# EAGLE library part CHROMATION_FLEX-8 (library Chromation)
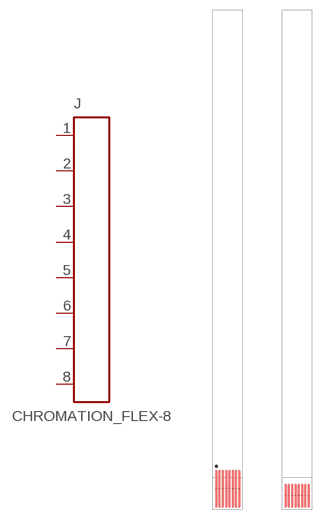
[diagram p18: symbol with the pads of CHROMATION_FLEX-8-OLD; footprints CHROMATION_FLEX-8-OLD, CHROMATION_FLEX-8]

Designator prefix J

## CHROMATION_FLEX-8OLD  [CHROMATION_FLEX-8-OLD]
1  PIN1
2  PIN2
3  PIN3
4  PIN4
5  PIN5
6  PIN6
7  PIN7
8  PIN8

## CHROMATION_FLEX-8NEW  [CHROMATION_FLEX-8]
Pads as for CHROMATION_FLEX-8-OLD

## CHROMATION_FLEX-8CU_IN_LAYOUT  [CHROMATION_FLEX-8_NO_COPPER]

## Footprint CHROMATION_FLEX-8-OLD (pad centres in mm)
smd 0.305 x 5.842: 1 -1.75,3.175; 2 -1.25,3.175; 3 -0.75,3.175; 4 -0.25,3.175; 5 0.25,3.175; 6 0.75,3.175; 7 1.25,3.175; 8 1.75,3.175

## Footprint CHROMATION_FLEX-8 (pad centres in mm)
smd 0.305 x 3.683: 1 -1.75,2.095; 2 -1.25,2.095; 3 -0.75,2.095; 4 -0.25,2.095; 5 0.25,2.095; 6 0.75,2.095; 7 1.25,2.095; 8 1.75,2.095

## Footprint CHROMATION_FLEX-8_NO_COPPER (pad centres in mm)